# Altium schematic symbol library RFID01.SchLib: 1 symbol
Pins are listed as number, name and electrical type; pins without a type are passive.

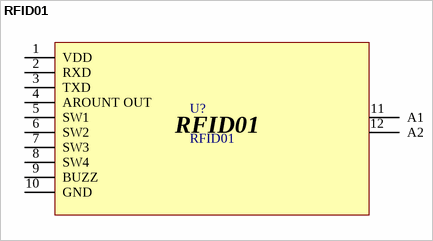
[diagram p0: symbol RFID01]

## RFID01
designator U?
footprint RFID01
pins: 1 VDD, 2 RXD, 3 TXD, 4 AROUNT OUT, 5 SW1, 6 SW2, 7 SW3, 8 SW4, 9 BUZZ, 10 GND, 11 A1, 12 A2